# EAGLE library part RP-ISO-4 (library Discrete)
Resistor Pack, 4 resistors, isolated
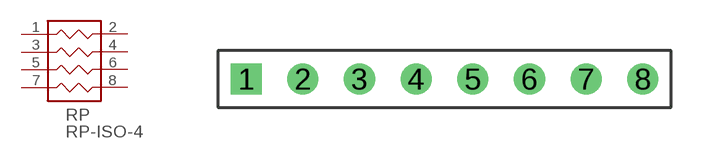
[diagram p1: symbol with the pads of SIP-8; footprint SIP-8]

Designator prefix RP

## RP-ISO-4  [SIP-8]
1  1  pas
2  2  pas
3  3  pas
4  4  pas
5  5  pas
6  6  pas
7  7  pas
8  8  pas

## Footprint SIP-8 (pad centres in mm)
drill 0.889 square: 1 -8.89,0
drill 0.889: 2 -6.35,0; 3 -3.81,0; 4 -1.27,0; 5 1.27,0; 6 3.81,0; 7 6.35,0; 8 8.89,0